# Altium schematic symbol library Mill-Max.SchLib: 2 symbols
Pins are listed as number, name and electrical type; pins without a type are passive.

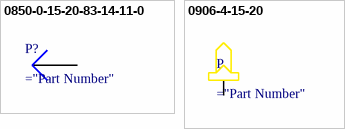
[diagram p0: symbols 0850-0-15-20-83-14-11-0 to 0906-4-15-20]

## 0850-0-15-20-83-14-11-0
designator P?
pins: 1 ="part number"

## 0906-4-15-20
designator P
pins: 1